# Altium integrated library BLM21PG300SN1D.IntLib: 1 symbol
Pins are listed as number, name and electrical type; pins without a type are passive.

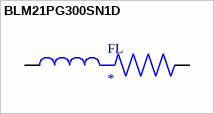
[diagram p0: symbol BLM21PG300SN1D]

## BLM21PG300SN1D
designator FL
30 Ohms @ 100MHz 1 Power Line Ferrite Bead 0805 _2012 Metric_ 4A 14mOhm; MP: BLM21PG300SN1D; MF: Murata; Value: *; Package: 2012 Murata; SnapEDA_Link: https://www.snapeda.com/parts/BLM21PG300SN1D/Murata/view-part/214335/?ref=snap; Digi-Key_Part_Number: 490-1052-1-ND; Digi-Key_Purchase_URL: https://www.digikey.com/product-detail/en/murata-electronics/BLM21PG300SN1D/490-1052-1-ND/584499?utm_source=snapeda&utm_medium=aggregator&utm_campaign=symbol
footprint BEADC2012X105N
pins: 1, 2